# Altium schematic symbol library Diodes.SchLib: 7 symbols
Pins are listed as number, name and electrical type; pins without a type are passive.

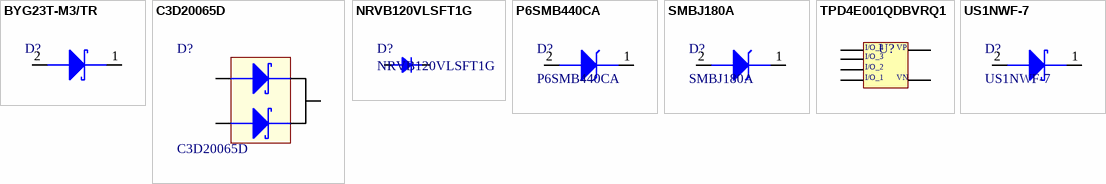
[diagram p0: symbols BYG23T-M3/TR to US1NWF-7]

## BYG23T-M3/TR
designator D?  (value not drawn)
DIODE AVALANCHE 1300V 1A DO214AC; Manufacturer: Vishay Semiconductors; Max Surge Current: 18A; Forward Voltage: 1.9V; Peak Reverse Current: 5uA; Recovery Time: 75ns; Max Repetitive Reverse Voltage (Vrrm): 1.3kV; Zener Voltage: 200V; Max Power Dissipation: 800mW; Element Configuration: Single; Supplier 1: Newark; Manufacturer Part Number: BYG23T-M3/TR; RoHS: Yes; Category: Rectifier Diodes; Stock 1: 6980; Pricing 1: 1=0.16100, 10=0.16100, 25=0.16100, 50=0.16100, 100=0.16100, 250=0.16100, 500=0.16100, 1000=0.14800 (USD); Mount: Surface Mount; Case/Package: SMA; Number of Pins: 2; Contact Plating: Tin,Matte; Min Operating Temperature: -55°C; Max Operating Temperature: 150°C; Packaging: Tape and Reel; Forward Current: 1A; Package Quantity: 1; Average Rectified Current: 1A; Reverse Recovery Time: 75ns; Max Forward Surge Current (Ifsm): 18A; Peak Non-Repetitive Surge Current: 18A; Diode Type: Avalanche; Max Reverse Voltage (DC): 1.3kV; Reverse Voltage: 1.3kV; Length: 4.5mm; Height: 2.29mm; Width: 2.79mm; Radiation Hardening: No; REACH SVHC: Unknown; ComponentLink1URL: https://datasheet.ciiva.com/23642/byg23t-23642320.pdf?src-supplier=Newark; ComponentLink1Description: https://datasheet.ciiva.com/23642/byg23t-23642320.pdf?src-supplier=Newark; ComponentLink2URL: https://datasheet.ciiva.com/30479/0900766b810d43bd-30479333.pdf?src-supplier=RSComponents; ComponentLink2Description: https://datasheet.ciiva.com/30479/0900766b810d43bd-30479333.pdf?src-supplier=RSComponents; ComponentLink3URL: https://datasheet.ciiva.com/4454/byg23t-85630-4454047.pdf?src-supplier=Mouser; ComponentLink3Description: https://datasheet.ciiva.com/4454/byg23t-85630-4454047.pdf?src-supplier=Mouser; ComponentLink4URL: https://datasheet.ciiva.com/920/byg23t-920130.pdf?src-supplier=Digi-Key; ComponentLink4Description: https://datasheet.ciiva.com/920/byg23t-920130.pdf?src-supplier=Digi-Key; ComponentLink5URL: https://datasheet.ciiva.com/920/byg23t-920131.pdf?src-supplier=Digi-Key; ComponentLink5Description: https://datasheet.ciiva.com/920/byg23t-920131.pdf?src-supplier=Digi-Key; ComponentLink6URL: https://datasheet.ciiva.com/920/byg23t-920132.pdf?src-supplier=Digi-Key; ComponentLink6Description: https://datasheet.ciiva.com/920/byg23t-920132.pdf?src-supplier=Digi-Key; ComponentLink7URL: https://datasheet.ciiva.com/1178/byg23t-1178213.pdf?src-supplier=Element14; ComponentLink7Description: https://datasheet.ciiva.com/1178/byg23t-1178213.pdf?src-supplier=Element14; Supplier Part Number 1: 70AC6454
footprint BYG23T-M3/TR (Fast / Ultrafast Diode, 1.3 kV, 1 A, Single, 1.9 V, 75 ns, 18 A)
pins: 1 Cathode, 2 Anode

## C3D20065D
designator D?
Schottky Diodes & Rectifiers Schottky Diode 2X10A, 650V C3D20065D; Manufacturer: Cree; Element Configuration: Common Cathode; Forward Current: 55A; Supplier 2: Digi-Key; Manufacturer Part Number: C3D20065D; RoHS: Yes; Category: Rectifier Diodes; Stock 2: 143; Pricing 2: 1=10,17000, 100=8,47000, 500=7,26004, 1000=6,36001 (USD); Case/Package: TO-247; Number of Pins: 3; Max Repetitive Reverse Voltage (Vrrm): 650V; Packaging: Cut Tape; REACH SVHC: No SVHC; ComponentLink1URL: http://www.mouser.com/ds/2/90/3d20065d_silicon_carbide_schottky_diode_z_rec_rect-838556.pdf?src-supplier=Mouser; ComponentLink1Description: http://www.mouser.com/ds/2/90/3d20065d_silicon_carbide_schottky_diode_z_rec_rect-838556.pdf?src-supplier=Mouser; ComponentLink2URL: http://www.farnell.com/datasheets/1821848.pdf?src-supplier=Element14; ComponentLink2Description: http://www.farnell.com/datasheets/1821848.pdf?src-supplier=Element14; ComponentLink3URL: http://www.wolfspeed.com/media/downloads/102/C3D20065D.pdf?src-supplier=Digi-Key; ComponentLink3Description: http://www.wolfspeed.com/media/downloads/102/C3D20065D.pdf?src-supplier=Digi-Key; Supplier Part Number 2: C3D20065D-ND; Supplier 1: Mouser; Stock 1: 7; Pricing 1: 1 = 10.17000, 100 = 8.47000, 500 = 7.26000, 1000 = 6.36000 (USD); ComponentLink4URL: https://www.wolfspeed.com/downloads/dl/file/id/102/product/74/c3d20065d.pdf?src-supplier=Digi-Key; ComponentLink4Description: https://www.wolfspeed.com/downloads/dl/file/id/102/product/74/c3d20065d.pdf?src-supplier=Digi-Key; Supplier Part Number 1: 941-C3D20065D
footprint TO-247-3_hsa (TO-247-3 package, horizontal, heat sink above)
pins: 1 14, 2 15, 3 14

## NRVB120VLSFT1G
designator D?
REEL / AUTO STANDARD OF MBR120VL; Manufacturer: ON Semiconductor; Max Reverse Voltage (DC): 20V; Element Configuration: Single; Average Rectified Current: 1A; Peak Reverse Current: 15mA; Peak Non-Repetitive Surge Current: 45A; Supplier 1: Digi-Key; Manufacturer Part Number: NRVB120VLSFT1G; Stock 1: 5674; Pricing 1: 1 = 0.43000, 10 = 0.36700, 25 = 0.34240, 100 = 0.25430, 250 = 0.24156, 500 = 0.19854, 1000 = 0.16137 (USD); RoHS: Yes; Mount: Surface Mount; Case/Package: SOD; Number of Pins: 2; Min Operating Temperature: -65°C; Max Operating Temperature: 125°C; Packaging: Tape and Reel; Max Repetitive Reverse Voltage (Vrrm): 20V; Lead Free: Lead Free; ComponentLink1URL: http://www.mouser.com/ds/2/308/MBR120VLSFT1-D-1074021.pdf?src-supplier=Mouser; ComponentLink1Description: http://www.mouser.com/ds/2/308/MBR120VLSFT1-D-1074021.pdf?src-supplier=Mouser; ComponentLink2URL: http://www.farnell.com/datasheets/2028665.pdf?src-supplier=Farnell; ComponentLink2Description: http://www.farnell.com/datasheets/2028665.pdf?src-supplier=Farnell; ComponentLink3URL: http://www.onsemi.com/pub/Collateral/MBR120VLSFT1-D.PDF?src-supplier=Avnet; ComponentLink3Description: http://www.onsemi.com/pub/Collateral/MBR120VLSFT1-D.PDF?src-supplier=Avnet; ComponentLink4URL: http://www.farnell.com/datasheets/2028665.pdf?src-supplier=Element14; ComponentLink4Description: http://www.farnell.com/datasheets/2028665.pdf?src-supplier=Element14; ComponentLink5URL: http://www.onsemi.com/pub/Collateral/MBR120VLSFT1-D.PDF?src-supplier=Digi-Key; ComponentLink5Description: http://www.onsemi.com/pub/Collateral/MBR120VLSFT1-D.PDF?src-supplier=Digi-Key; ComponentLink6URL: http://www.farnell.com/datasheets/2028665.pdf?src-supplier=Newark; ComponentLink6Description: http://www.farnell.com/datasheets/2028665.pdf?src-supplier=Newark; Supplier Part Number 1: NRVB120VLSFT1GOSCT-ND
footprint NRVB120VLSFT1G (REEL / AUTO STANDARD OF MBR120VL)
pins: 1, 2

## P6SMB440CA
designator D?
LITTELFUSE - P6SMB440CA - TVS Diode, P6SMB series, Bidirectional, 376 V, 602 V, DO-214AA, 2 Pins; Clamping Voltage: 602V; Peak Pulse Power: 600W; Number of Bidirectional Channels: 1; Reverse Standoff Voltage: 376V; Min Breakdown Voltage: 418V; Power Line Protection: No; Peak Pulse Current: 1A; Leakage Current: 1uA; Test Current: 1mA; Max Breakdown Voltage: 462V; Max Power Dissipation: 5W; Manufacturer: Littelfuse; Manufacturer Part Number: P6SMB440CA; RoHS: Yes; Category: TVS Diodes; Stock 1: 22565; Pricing 1: 1=0,61000, 10=0,53800, 25=0,50560, 100=0,36690, 250=0,35388, 500=0,30660, 1000=0,26093 (USD); Mount: Surface Mount; Case/Package: SMB; Number of Pins: 2; Min Operating Temperature: -65°C; Max Operating Temperature: 150°C; Composition: Zener; Polarity: Bidirectional; Packaging: Tape and Reel; Package Quantity: 3000; Reverse Breakdown Voltage: 418V; Breakdown Voltage: 418V; Termination: SMD/SMT; Number of Channels: 1; Number of Elements: 1; Power Dissipation: 600W; Direction: Bidirectional; Operating Supply Voltage: 376V; Max Surge Current: 1A; Lead Free: Lead Free; REACH SVHC: No SVHC; ComponentLink1URL: https://datasheet.ciiva.com/26787/p6smb440ca-26787394.pdf?src-supplier=IIIC; ComponentLink1Description: https://datasheet.ciiva.com/26787/p6smb440ca-26787394.pdf?src-supplier=IIIC; ComponentLink2URL: https://datasheet.ciiva.com/8062/littelfuse-tvs-diodes-p6smb-8062501.pdf?src-supplier=Element14; ComponentLink2Description: https://datasheet.ciiva.com/8062/littelfuse-tvs-diodes-p6smb-8062501.pdf?src-supplier=Element14; ComponentLink3URL: https://datasheet.ciiva.com/331/littelfuse-tvs-diode-p6smb-datasheet-pdf-331974.pdf?src-supplier=Digi-Key; ComponentLink3Description: https://datasheet.ciiva.com/331/littelfuse-tvs-diode-p6smb-datasheet-pdf-331974.pdf?src-supplier=Digi-Key; ComponentLink4URL: https://datasheet.ciiva.com/331/littelfuse-tvs-diode-p6smb-datasheet-pdf-331975.pdf?src-supplier=Digi-Key; ComponentLink4Description: https://datasheet.ciiva.com/331/littelfuse-tvs-diode-p6smb-datasheet-pdf-331975.pdf?src-supplier=Digi-Key; ComponentLink5URL: https://datasheet.ciiva.com/331/littelfuse-tvs-diode-p6smb-datasheet-pdf-331976.pdf?src-supplier=Digi-Key; ComponentLink5Description: https://datasheet.ciiva.com/331/littelfuse-tvs-diode-p6smb-datasheet-pdf-331976.pdf?src-supplier=Digi-Key; ComponentLink6URL: https://datasheet.ciiva.com/14162/p6smb-eng-ds-14162043.pdf?src-supplier=Distrelec; ComponentLink6Description: https://datasheet.ciiva.com/14162/p6smb-eng-ds-14162043.pdf?src-supplier=Distrelec; Supplier 1: Digi-Key; Supplier 2: Digi-Key; Supplier 3: Digi-Key; Supplier 4: Arrow; Supplier 5: Mouser; Supplier 6: Farnell; Supplier 7: Newark; Supplier Part Number 7: 85R4928; Supplier Part Number 6: 2762990; Supplier Part Number 5: 576-P6SMB440CA; Supplier Part Number 4: P6SMB440CA; Supplier Part Number 3: P6SMB440CALFTR-ND; Supplier Part Number 2: P6SMB440CALFDKR-ND; Supplier Part Number 1: P6SMB440CALFCT-ND
footprint DO-214AA SMB (DO-214AA SMD Diode package)
pins: 1 Cathode, 2 Anode

## SMBJ180A
designator D?
Diode TVS Single Uni-Dir 180V 600W 2-Pin SMB T/R; Manufacturer: Littelfuse; Min Breakdown Voltage: 201V; Clamping Voltage: 292V; Peak Pulse Current: 2.1A; Direction: Unidirectional; Test Current: 1mA; Number of Unidirectional Channels: 1; Power Line Protection: No; Max Breakdown Voltage: 222V; Leakage Current: 1uA; Manufacturer Part Number: SMBJ180A; RoHS: Yes; Category: TVS Diodes; Stock 1: 3159; Pricing 1: 1=0,48000, 10=0,40900, 25=0,38160, 100=0,28340, 250=0,26924, 500=0,22128, 1000=0,17985 (USD); Mount: Surface Mount; Case/Package: SMB; Number of Pins: 2; Min Operating Temperature: -55°C; Max Operating Temperature: 150°C; Peak Pulse Power: 600W; Reverse Standoff Voltage: 180V; Packaging: Tape and Reel; Composition: Zener; Package Quantity: 3000; Operating Supply Voltage: 180V; Number of Channels: 1; Polarity: Unidirectional; Termination: SMD/SMT; Voltage Rating (DC): 180V; Max Surge Current: 2.1A; Breakdown Voltage: 201V; Reverse Breakdown Voltage: 201V; Power Dissipation: 600W; Number of Elements: 1; Length: 5.59mm; Height: 2.44mm; Width: 3.94mm; Lead Free: Lead Free; ComponentLink1URL: https://datasheet.ciiva.com/26787/smbj180a-26787834.pdf?src-supplier=IIIC; ComponentLink1Description: https://datasheet.ciiva.com/26787/smbj180a-26787834.pdf?src-supplier=IIIC; ComponentLink2URL: https://datasheet.ciiva.com/4516/littelfuse-tvs-diode-smbj-48653-4516011.pdf?src-supplier=Mouser; ComponentLink2Description: https://datasheet.ciiva.com/4516/littelfuse-tvs-diode-smbj-48653-4516011.pdf?src-supplier=Mouser; ComponentLink3URL: https://datasheet.ciiva.com/331/littelfuse-tvs-diode-smbj-datasheet-pdf-331907.pdf?src-supplier=Digi-Key; ComponentLink3Description: https://datasheet.ciiva.com/331/littelfuse-tvs-diode-smbj-datasheet-pdf-331907.pdf?src-supplier=Digi-Key; ComponentLink4URL: https://datasheet.ciiva.com/331/littelfuse-tvs-diode-smbj-datasheet-pdf-331908.pdf?src-supplier=Digi-Key; ComponentLink4Description: https://datasheet.ciiva.com/331/littelfuse-tvs-diode-smbj-datasheet-pdf-331908.pdf?src-supplier=Digi-Key; ComponentLink5URL: https://datasheet.ciiva.com/331/littelfuse-tvs-diode-smbj-datasheet-pdf-331909.pdf?src-supplier=Digi-Key; ComponentLink5Description: https://datasheet.ciiva.com/331/littelfuse-tvs-diode-smbj-datasheet-pdf-331909.pdf?src-supplier=Digi-Key; ComponentLink6URL: https://datasheet.ciiva.com/16487/littelfuse-tvs-diode-smbj-16487606.pdf?src-supplier=Future+Electronics; ComponentLink6Description: https://datasheet.ciiva.com/16487/littelfuse-tvs-diode-smbj-16487606.pdf?src-supplier=Future+Electronics; Supplier 1: Digi-Key; Supplier 2: Arrow; Supplier 3: Mouser; Supplier 4: Farnell; Supplier 5: Newark; Supplier Part Number 5: 33AC0976; Supplier Part Number 4: 2777262; Supplier Part Number 3: 576-SMBJ180A; Supplier Part Number 2: SMBJ180A; Supplier Part Number 1: SMBJ180ALFCT-ND
footprint DO-214AA SMB (DO-214AA SMD Diode package)
pins: 1 Cathode, 2 Anode

## TPD4E001QDBVRQ1
designator U?  (value not drawn)
TVS DIODE 5.5V 16V SOT23-6; Manufacturer: Texas Instruments; Direction: Unidirectional; Capacitance: 1.5pF; Number of Bidirectional Channels: 4; Min Breakdown Voltage: 11V; Peak Pulse Power: 100W; Power Line Protection: Yes; Current Rating: 1nA; Forward Voltage: 950mV; Leakage Current: 200nA; Peak Pulse Current: 5.5A; Interface: LVDS,USB,Ethernet; Supplier 1: Digi-Key; Manufacturer Part Number: TPD4E001QDBVRQ1; RoHS: Yes; Category: Integrated Circuits (ICs); Stock 1: 1071; Pricing 1: 1=0.61000, 10=0.51900, 100=0.36100, 500=0.28188, 1000=0.22912 (USD); Mount: Surface Mount; Case/Package: SOT-23-6; Number of Pins: 6; Min Operating Temperature: -40°C; Max Operating Temperature: 125°C; Package Quantity: 3000; Packaging: Tape and Reel; Operating Supply Voltage: 5.5V; Reverse Standoff Voltage: 5.5V; Clamping Voltage: 16V; Polarity: Unidirectional; Number of Channels: 4; Breakdown Voltage: 11V; Termination: SMD/SMT; Max Power Dissipation: 100W; Working Voltage: 5.5V; Length: 3.05mm; Depth: 1.75mm; Radiation Hardening: No; Lead Free: Lead Free; RoHS Compliant: Yes; ComponentLink1URL: https://datasheet.ciiva.com/29883/tpd4e001-q1-29883797.pdf?src-supplier=Avnet; ComponentLink1Description: https://datasheet.ciiva.com/29883/tpd4e001-q1-29883797.pdf?src-supplier=Avnet; ComponentLink2URL: https://datasheet.ciiva.com/26935/getdatasheetpartid-740947-26935927.pdf?src-supplier=Verical; ComponentLink2Description: https://datasheet.ciiva.com/26935/getdatasheetpartid-740947-26935927.pdf?src-supplier=Verical; ComponentLink3URL: https://datasheet.ciiva.com/24089/sllseg0c-285978-24089384.pdf?src-supplier=Mouser; ComponentLink3Description: https://datasheet.ciiva.com/24089/sllseg0c-285978-24089384.pdf?src-supplier=Mouser; ComponentLink4URL: https://datasheet.ciiva.com/18551/tpd4e001-q1-18551302.pdf?src-supplier=Digi-Key; ComponentLink4Description: https://datasheet.ciiva.com/18551/tpd4e001-q1-18551302.pdf?src-supplier=Digi-Key; Supplier Part Number 1: 296-39344-1-ND
footprint TPD4E001QDBVRQ1 (TVS DIODE 5.5V 16V SOT23-6)
pins: 1, 2, 3, 4, 5, 6
text: I/O_4; VP; I/O_3; I/O_2; I/O_1; VN

## US1NWF-7
designator D?
DIODE GEN PURP 1.2KV 1A SOD123F; Manufacturer: Diodes; Reverse Recovery Time: 80ns; Manufacturer Part Number: US1NWF-7; RoHS: No; Category: Rectifier Diodes; Stock 1: 6339; Pricing 1: 1=0,50000, 10=0,40300, 25=0,36840, 100=0,23130, 250=0,22868, 500=0,21412, 1000=0,14561 (USD); Mount: Surface Mount; Packaging: Tape and Reel; Max Reverse Voltage (DC): 1.2kV; Average Rectified Current: 1A; ComponentLink1URL: https://www.diodes.com/assets/Datasheets/US1NWF.pdf?src-supplier=Digi-Key; ComponentLink1Description: https://www.diodes.com/assets/Datasheets/US1NWF.pdf?src-supplier=Digi-Key; Supplier 1: Digi-Key; Supplier 2: Mouser; Supplier Part Number 1: US1NWF-7DICT-ND; Supplier Part Number 2: 621-US1NWF-7
footprint SOD123F (SOD123F package for diodes)
pins: 1 Cathode, 2 Anode